# Altium footprint library inductor.PcbLib: 3 footprints
Each footprint in its own frame and in the unit in brackets; x right, y up, seen from the top. Pads: shape width x height; smd on the part's side, far side on the other; paste and mask are expansions set on the pad; w line width, h text height; cw(c..) or ccw(c..) is an arc to the next point about the centre after c.
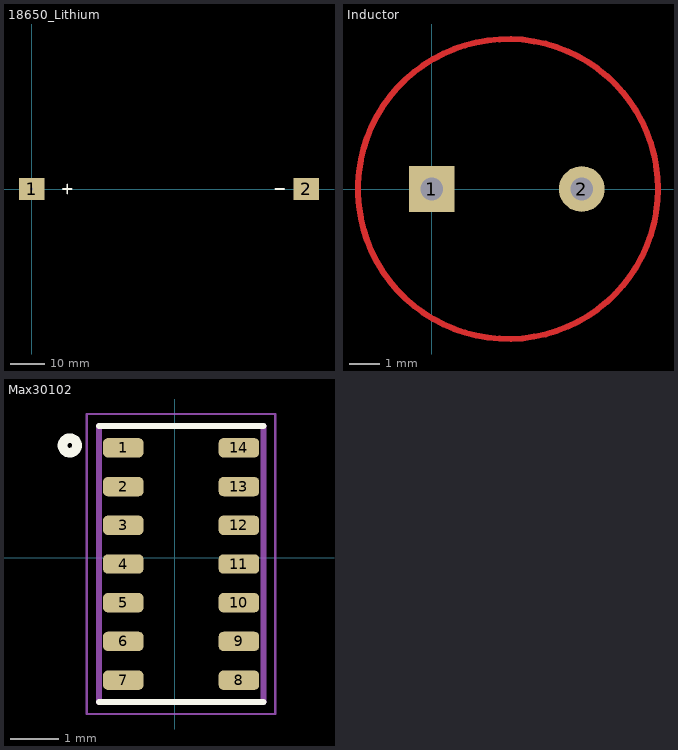
[diagram p0: the footprints below, top view; thin cyan lines are the x and y axes]

## 18650_Lithium [mm]
pads (2):
  rect 7.3x6.4 hole 0.762: 1(0,0) 2(78.7,0)
Top Overlay:
  lines w0.5: 8.89,0 11.43,0 ; 10.16,-1.27 10.16,1.27 ; 69.85,0 72.39,0
3D body "1042.STEP": height 14.86, standoff -3.43, extent -3.79,-10.325 82.672,10.325

## Inductor [mil]
pads (2):
  rect 60x60 hole 30: 1(0,0)
  round 60 hole 30: 2(196.85,0)
Top Layer:
  circle w7.87: c100,0 r196.85
3D body: height 0, standoff 0, extent -96.83,-196.83 296.83,196.83

## Max30102 [mm]
pads (14):
  rrect50% 0.84x0.4 smd: 1(-1.068,2.273) 2(-1.068,1.473) 3(-1.068,0.673) 4(-1.068,-0.127) 5(-1.068,-0.927) 6(-1.068,-1.727) 7(-1.068,-2.527) 8(1.322,-2.527) 9(1.322,-1.727) 10(1.322,-0.927) 11(1.322,-0.127) 12(1.322,0.673) 13(1.322,1.473) 14(1.322,2.273)
Top Overlay:
  circle w0.2: c-2.173,2.323 r0.15
  lines w0.127: -1.573,-2.977 1.827,-2.977 ; -1.573,2.723 1.827,2.723
Mechanical 13:
  lines w0.127: -1.573,-2.977 1.827,-2.977 1.827,2.723 -1.573,2.723 -1.573,-2.977
Mechanical 15:
  lines w0.05: -1.823,-3.227 -1.823,2.973 2.077,2.973 2.077,-3.227 -1.823,-3.227
3D body "step_temp.STEP": height 1.65, standoff 0, extent -1.523,-2.927 1.777,2.673